# Altium integrated library Analog Devices Data Converters Digital-to-Analog Converters.IntLib: 2231 symbols (part 171 of 181)
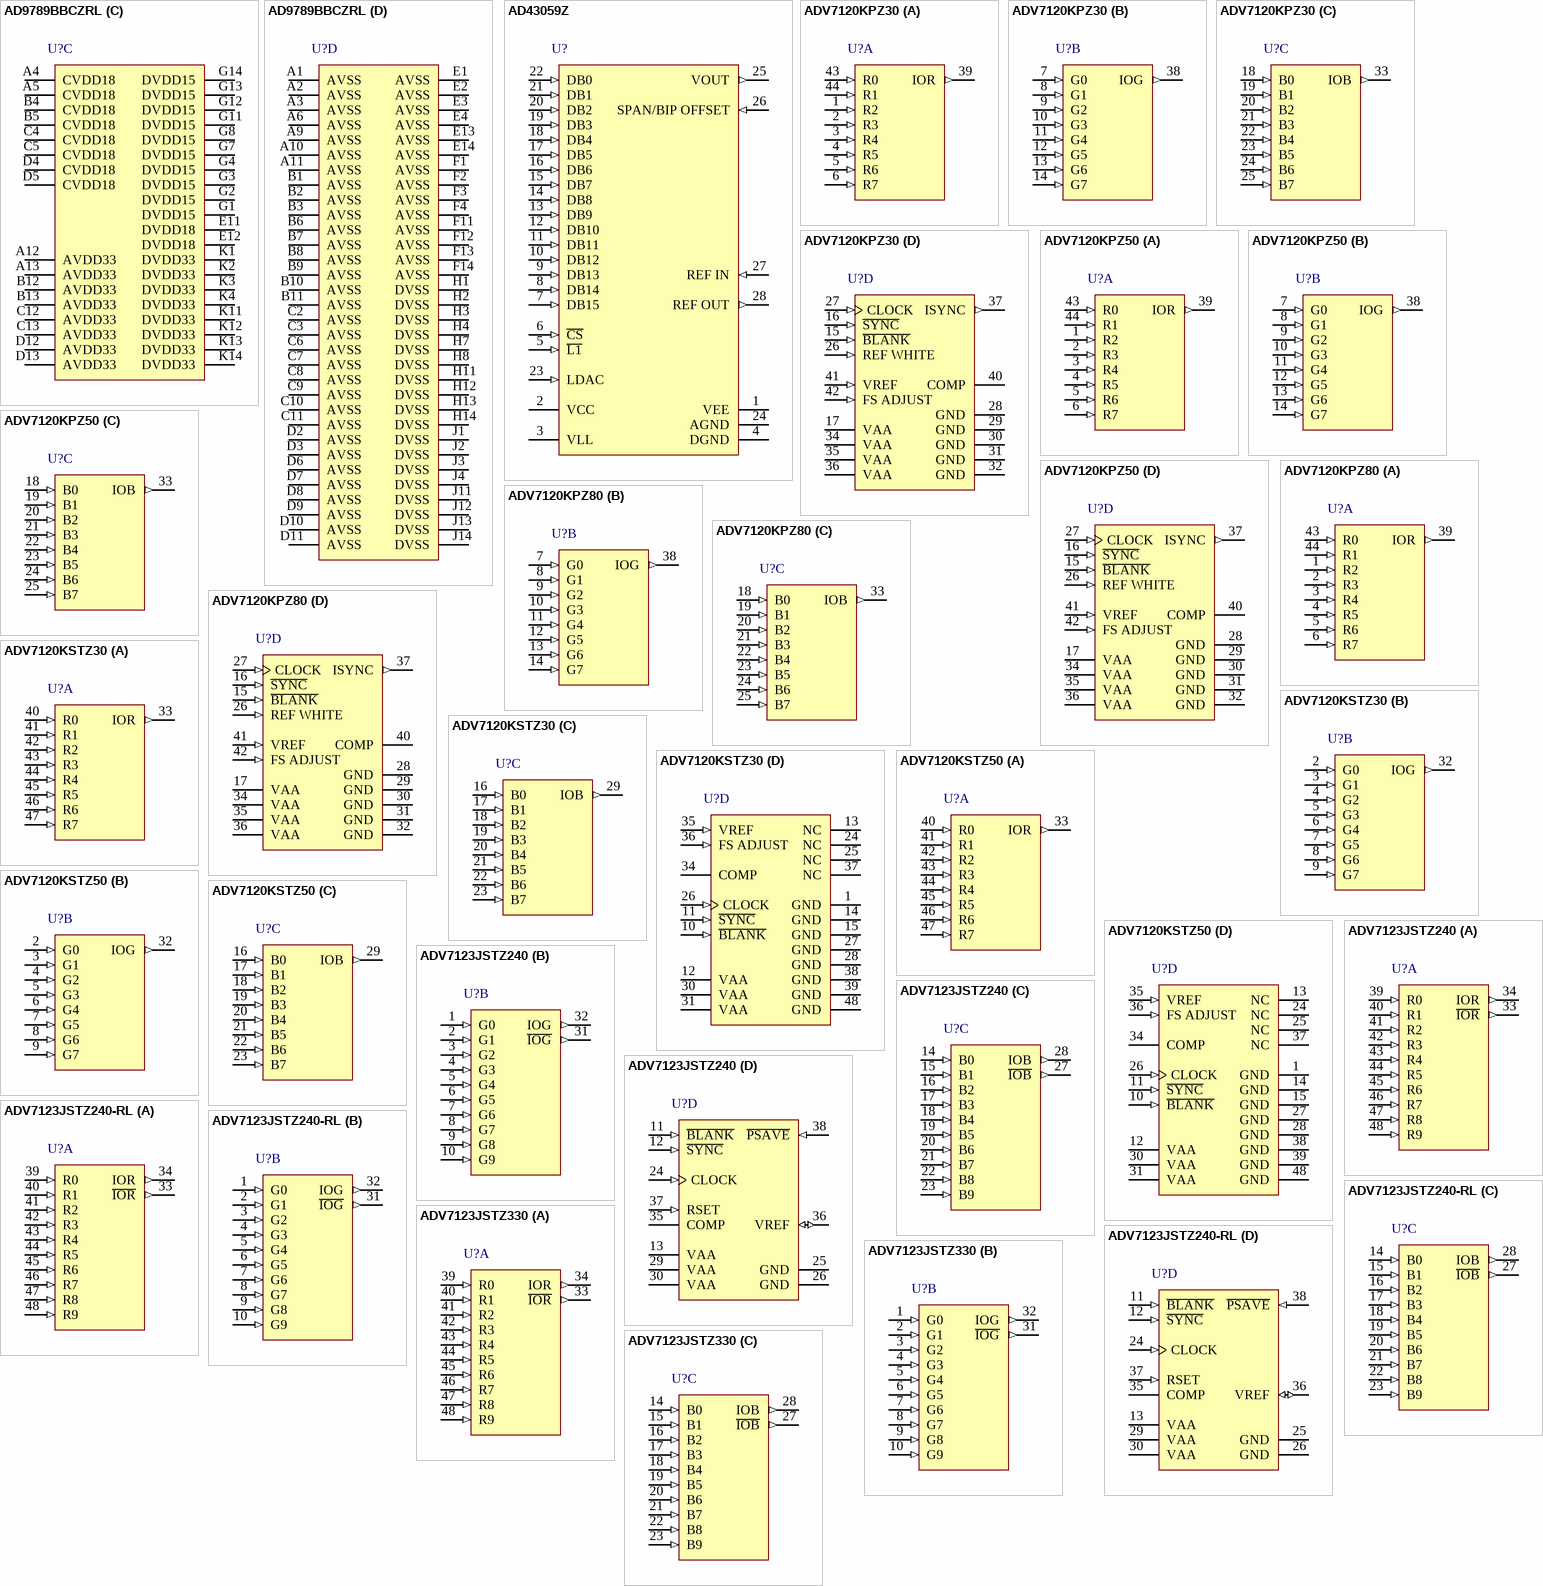
[diagram p284: symbols AD9789BBCZRL to ADV7123JSTZ330]

## ADV7120KSTZ50
designator U?
3 Channel 8-Bit CMOS Video Digital-to-Analog Converter, 0 to +70 degC, ST-48, Pb-Free, Tray; Generic Part Number: ADV7120; Manufacturer: Analog Devices; PartNumber: ADV7120KSTZ50; # DAC Outputs: 3; Max V+: 5.25V; Op Pwr Diss: 625mW; Resolution (Bits): 8; Settling Time: 12ns; Single Supply: Yes; DatasheetVersion: Rev.B; PackageVersion: revA; PackageReference: ST-48; PackageDescription: 48-Pin Thin Quad Flat Pack 0.5 mm Pitch; Supplier 1: Digi-Key; Supplier Part Number 1: ADV7120KSTZ50-ND; Supplier 2: Mouser; Supplier Part Number 2: 584-ADV7120KSTZ50; Packing: Tray; RoHS: Y; Mounting Technology: Surface Mount; ComponentLink1Description: Manufacturer URL; ComponentLink1URL: http://www.analog.com/en/index.html; ComponentLink2Description: Datasheet; ComponentLink2URL: http://www.analog.com/static/imported-files/data_sheets/ADV7120.pdf; ComponentLink3Description: Package Specification; ComponentLink3URL: http://www.analog.com/static/imported-files/packages/PKG_PDF/LQFP%28ST%29/ST_48.pdf; ComponentLink4Description: Product URL; ComponentLink4URL: http://www.analog.com/en/digital-to-analog-converters/da-converters/adv7120/products/product.html
footprint ST-48_N (Thin QFP, 48-Leads, Body 7x7mm, Pitch 0.5mm, IPC Medium Density)
footprint ST-48_L (Thin QFP, 48-Leads, Body 7x7mm, Pitch 0.5mm, IPC High Density)
footprint ST-48_M (Thin QFP, 48-Leads, Body 7x7mm, Pitch 0.5mm, IPC Low Density)
part A pins: 33 IOR (out) "Red current output.This high impedance current sources is capable of directly driving a doubly terminated 75 ohm coaxial cable. This current output should have similar output load whether or not this is being used.", 40 R0 (in) "Red pixel data input (TTL compatible). Pixel data is latched on the rising edge of CLOCK.R0 is the least significant data bits. Unused pixel data inputs should be connected to either the regular PCB power or ground plane.", 41 R1 (in) "Red pixel data input (TTL compatible). Pixel data is latched on the rising edge of CLOCK.Unused pixel data inputs should be connected to either the regular PCB power or ground plane.", 42 R2 (in) "Red pixel data input (TTL compatible). Pixel data is latched on the rising edge of CLOCK.Unused pixel data inputs should be connected to either the regular PCB power or ground plane.", 43 R3 (in) "Red pixel data input (TTL compatible). Pixel data is latched on the rising edge of CLOCK.Unused pixel data inputs should be connected to either the regular PCB power or ground plane.", 44 R4 (in) "Red pixel data input (TTL compatible). Pixel data is latched on the rising edge of CLOCK.Unused pixel data inputs should be connected to either the regular PCB power or ground plane.", 45 R5 (in) "Red pixel data input (TTL compatible). Pixel data is latched on the rising edge of CLOCK.Unused pixel data inputs should be connected to either the regular PCB power or ground plane.", 46 R6 (in) "Red pixel data input (TTL compatible). Pixel data is latched on the rising edge of CLOCK.Unused pixel data inputs should be connected to either the regular PCB power or ground plane.", 47 R7 (in) "Red pixel data input (TTL compatible). Pixel data is latched on the rising edge of CLOCK.Unused pixel data inputs should be connected to either the regular PCB power or ground plane."
part B pins: 2 G0 (in) "Green pixel data input (TTL compatible). Pixel data is latched on the rising edge of CLOCK.G0 is the least significant data bits. Unused pixel data inputs should be connected to either the regular PCB power or ground plane.", 3 G1 (in) "Green pixel data input (TTL compatible). Pixel data is latched on the rising edge of CLOCK.Unused pixel data inputs should be connected to either the regular PCB power or ground plane.", 4 G2 (in) "Green pixel data input (TTL compatible). Pixel data is latched on the rising edge of CLOCK.Unused pixel data inputs should be connected to either the regular PCB power or ground plane.", 5 G3 (in) "Green pixel data input (TTL compatible). Pixel data is latched on the rising edge of CLOCK.Unused pixel data inputs should be connected to either the regular PCB power or ground plane.", 6 G4 (in) "Green pixel data input (TTL compatible). Pixel data is latched on the rising edge of CLOCK.Unused pixel data inputs should be connected to either the regular PCB power or ground plane.", 7 G5 (in) "Green pixel data input (TTL compatible). Pixel data is latched on the rising edge of CLOCK.Unused pixel data inputs should be connected to either the regular PCB power or ground plane.", 8 G6 (in) "Green pixel data input (TTL compatible). Pixel data is latched on the rising edge of CLOCK.Unused pixel data inputs should be connected to either the regular PCB power or ground plane.", 9 G7 (in) "Green pixel data input (TTL compatible). Pixel data is latched on the rising edge of CLOCK.Unused pixel data inputs should be connected to either the regular PCB power or ground plane.", 32 IOG (out) "Green current output.This high impedance current sources is capable of directly driving a doubly terminated 75 ohm coaxial cable. This current output should have similar output load whether or not this is being used."
part C pins: 16 B0 (in) "Blue pixel data input (TTL compatible). Pixel data is latched on the rising edge of CLOCK.B0 is the least significant data bits. Unused pixel data inputs should be connected to either the regular PCB power or ground plane.", 17 B1 (in) "Blue pixel data input (TTL compatible). Pixel data is latched on the rising edge of CLOCK.Unused pixel data inputs should be connected to either the regular PCB power or ground plane.", 18 B2 (in) "Blue pixel data input (TTL compatible). Pixel data is latched on the rising edge of CLOCK.Unused pixel data inputs should be connected to either the regular PCB power or ground plane.", 19 B3 (in) "Blue pixel data input (TTL compatible). Pixel data is latched on the rising edge of CLOCK.Unused pixel data inputs should be connected to either the regular PCB power or ground plane.", 20 B4 (in) "Blue pixel data input (TTL compatible). Pixel data is latched on the rising edge of CLOCK.Unused pixel data inputs should be connected to either the regular PCB power or ground plane.", 21 B5 (in) "Blue pixel data input (TTL compatible). Pixel data is latched on the rising edge of CLOCK.Unused pixel data inputs should be connected to either the regular PCB power or ground plane.", 22 B6 (in) "Blue pixel data input (TTL compatible). Pixel data is latched on the rising edge of CLOCK.Unused pixel data inputs should be connected to either the regular PCB power or ground plane.", 23 B7 (in) "Blue pixel data input (TTL compatible). Pixel data is latched on the rising edge of CLOCK.Unused pixel data inputs should be connected to either the regular PCB power or ground plane.", 29 IOB (out) "Blue current output.This high impedance current sources is capable of directly driving a doubly terminated 75 ohm coaxial cable. This current output should have similar output load whether or not this is being used."
part D pins: 1 GND (power) "Ground. All GND pins must be connected.", 10 ~{BLANK} (in) "Composite blank control input (TTL compatible). A logic zero on this control input drives the analog out-puts, IOR, IOB and IOG, to the blanking level. The B\L\A\N\K\ signal is latched on the rising edge of CLOCK.While (See Datasheet)", 11 ~{SYNC} (in) "Composite sync control input (TTL compatible). A logical zero on the S\Y\N\C\ input switches off a 40 IRE current source on the ISYNC output. S\Y\N\C\ does not override any other control or data input; therefore, it should (See Datasheet)", 12 VAA (power) "Analog power supply (5 V +/- 5%). All VAA pins on the ADV7120 must be connected.", 13 NC "No connection", 14 GND (power) "Ground. All GND pins must be connected.", 15 GND (power) "Ground. All GND pins must be connected.", 24 NC "No connection", 25 NC "No connection", 26 CLOCK (in) "Clock input (TTL compatible). The rising edge of CLOCK latches the R0-R7, G0-G7, B0-B7, S\Y\N\C\,B\L\A\N\K\ and REF WHITE pixel and control inputs. It is typically the pixel clock rate of the video system.CLOCK should be (See Datasheet)", 27 GND (power) "Ground. All GND pins must be connected.", 28 GND (power) "Ground. All GND pins must be connected.", 30 VAA (power) "Analog power supply (5 V +/- 5%). All VAA pins on the ADV7120 must be connected.", 31 VAA (power) "Analog power supply (5 V +/- 5%). All VAA pins on the ADV7120 must be connected.", 34 COMP "Compensation pin. This is a compensation pin for the internal reference amplifier. A 0.1 µF ceramic capacitor must be connected between COMP and VAA.", 35 VREF (in) "Voltage reference input. An external 1.2 V voltage reference must be connected to this pin. The use of an external resistor divider network is not recommended. A 0.1 µF decoupling ceramic capacitor should be connected (See Datasheet)", 36 FS ADJUST (in) "Full-scale adjust control. A resistor (RSET) connected between this pin and GND, controls the magnitude of the full-scale video signal. Note that the IRE relationships are maintained, regardless of the full-scale output (See Datasheet)", 37 NC "No connection", 38 GND (power) "Ground. All GND pins must be connected.", 39 GND (power) "Ground. All GND pins must be connected.", 48 GND (power) "Ground. All GND pins must be connected."

## ADV7123JSTZ240
designator U?
3 Channel 10-Bit CMOS High Speed Video Digital-to-Analog Converter, 330 MHz, 0 to 70 degC, ST-48, Pb-Free, Tray; Generic Part Number: ADV7123; Manufacturer: Analog Devices; PartNumber: ADV7123JSTZ240; # DAC Outputs: 3; Max V+: 5.25V; Op Pwr Diss: 485mW; Resolution (Bits): 10; Settling Time: 15ns; Single Supply: Yes; DatasheetVersion: Rev.D; PackageVersion: revA; PackageReference: ST-48; PackageDescription: 48-Pin Thin Quad Flat Pack 0.5 mm Pitch; Supplier 1: Digi-Key; Supplier Part Number 1: ADV7123JSTZ240-ND; Supplier 2: Farnell; Supplier Part Number 2: 1438732; Supplier 3: Newark; Supplier Part Number 3: 19M8771; Supplier 4: Mouser; Supplier Part Number 4: 584-ADV7123JSTZ240; Packing: Tray; RoHS: Y; Mounting Technology: Surface Mount; ComponentLink1Description: Manufacturer URL; ComponentLink1URL: http://www.analog.com/en/index.html; ComponentLink2Description: Datasheet; ComponentLink2URL: http://www.analog.com/static/imported-files/data_sheets/ADV7123.pdf; ComponentLink3Description: Package Specification; ComponentLink3URL: http://www.analog.com/static/imported-files/packages/PKG_PDF/LQFP%28ST%29/ST_48.pdf; ComponentLink4Description: Product URL; ComponentLink4URL: http://www.analog.com/en/digital-to-analog-converters/da-converters/adv7123/products/product.html
footprint ST-48_N (Thin QFP, 48-Leads, Body 7x7mm, Pitch 0.5mm, IPC Medium Density)
footprint ST-48_L (Thin QFP, 48-Leads, Body 7x7mm, Pitch 0.5mm, IPC High Density)
footprint ST-48_M (Thin QFP, 48-Leads, Body 7x7mm, Pitch 0.5mm, IPC Low Density)
part A pins: 33 ~{IOR} (out) "Differential Red Current Output (High Impedance Current Sources). These RGB video outputs are specified to directly drive RS-343A and RS-170 video levels into a doubly terminated 75 ohm load. If the complementary outputs are (See Datasheet)", 34 IOR (out) "Red Current Output. These high impedance current sources are capable of directly driving a doubly terminated 75 ohm coaxial cable. All three current outputs should have similar output loads whether or not they are all being (See Datasheet)", 39 R0 (in) "Red Pixel Data Input (TTL Compatible). Pixel data is latched on the rising edge of CLOCK. R0 is the least significant data bits. Unused pixel data inputs should be connected to either the regular printed circuit board (PCB) (See Datasheet)", 40 R1 (in) "Red Pixel Data Input (TTL Compatible). Pixel data is latched on the rising edge of CLOCK. Unused pixel data inputs should be connected to either the regular printed circuit board (PCB) power or ground plane.", 41 R2 (in) "Red Pixel Data Input (TTL Compatible). Pixel data is latched on the rising edge of CLOCK. Unused pixel data inputs should be connected to either the regular printed circuit board (PCB) power or ground plane.", 42 R3 (in) "Red Pixel Data Input (TTL Compatible). Pixel data is latched on the rising edge of CLOCK. Unused pixel data inputs should be connected to either the regular printed circuit board (PCB) power or ground plane.", 43 R4 (in) "Red Pixel Data Input (TTL Compatible). Pixel data is latched on the rising edge of CLOCK. Unused pixel data inputs should be connected to either the regular printed circuit board (PCB) power or ground plane.", 44 R5 (in) "Red Pixel Data Input (TTL Compatible). Pixel data is latched on the rising edge of CLOCK. Unused pixel data inputs should be connected to either the regular printed circuit board (PCB) power or ground plane.", 45 R6 (in) "Red Pixel Data Input (TTL Compatible). Pixel data is latched on the rising edge of CLOCK. Unused pixel data inputs should be connected to either the regular printed circuit board (PCB) power or ground plane.", 46 R7 (in) "Red Pixel Data Input (TTL Compatible). Pixel data is latched on the rising edge of CLOCK. Unused pixel data inputs should be connected to either the regular printed circuit board (PCB) power or ground plane.", 47 R8 (in) "Red Pixel Data Input (TTL Compatible). Pixel data is latched on the rising edge of CLOCK. Unused pixel data inputs should be connected to either the regular printed circuit board (PCB) power or ground plane.", 48 R9 (in) "Red Pixel Data Input (TTL Compatible). Pixel data is latched on the rising edge of CLOCK. Unused pixel data inputs should be connected to either the regular printed circuit board (PCB) power or ground plane."
part B pins: 1 G0 (in) "Green Pixel Data Input (TTL Compatible). Pixel data is latched on the rising edge of CLOCK. G0 is the least significant data bits. Unused pixel data inputs should be connected to either the regular printed circuit board (See Datasheet)", 2 G1 (in) "Green Pixel Data Input (TTL Compatible). Pixel data is latched on the rising edge of CLOCK.  Unused pixel data inputs should be connected to either the regular printed circuit board (PCB) power or ground plane.", 3 G2 (in) "Green Pixel Data Input (TTL Compatible). Pixel data is latched on the rising edge of CLOCK.  Unused pixel data inputs should be connected to either the regular printed circuit board (PCB) power or ground plane.", 4 G3 (in) "Green Pixel Data Input (TTL Compatible). Pixel data is latched on the rising edge of CLOCK.  Unused pixel data inputs should be connected to either the regular printed circuit board (PCB) power or ground plane.", 5 G4 (in) "Green Pixel Data Input (TTL Compatible). Pixel data is latched on the rising edge of CLOCK.  Unused pixel data inputs should be connected to either the regular printed circuit board (PCB) power or ground plane.", 6 G5 (in) "Green Pixel Data Input (TTL Compatible). Pixel data is latched on the rising edge of CLOCK.  Unused pixel data inputs should be connected to either the regular printed circuit board (PCB) power or ground plane.", 7 G6 (in) "Green Pixel Data Input (TTL Compatible). Pixel data is latched on the rising edge of CLOCK.  Unused pixel data inputs should be connected to either the regular printed circuit board (PCB) power or ground plane.", 8 G7 (in) "Green Pixel Data Input (TTL Compatible). Pixel data is latched on the rising edge of CLOCK.  Unused pixel data inputs should be connected to either the regular printed circuit board (PCB) power or ground plane.", 9 G8 (in) "Green Pixel Data Input (TTL Compatible). Pixel data is latched on the rising edge of CLOCK.  Unused pixel data inputs should be connected to either the regular printed circuit board (PCB) power or ground plane.", 10 G9 (in) "Green Pixel Data Input (TTL Compatible). Pixel data is latched on the rising edge of CLOCK.  Unused pixel data inputs should be connected to either the regular printed circuit board (PCB) power or ground plane.", 31 ~{IOG} (out) "Differential Green Current Output (High Impedance Current Sources). These RGB video outputs are specified to directly drive RS-343A and RS-170 video levels into a doubly terminated 75 ohm load. If the complementary outputs (See Datasheet)", 32 IOG (out) "Green Current Output. These high impedance current sources are capable of directly driving a doubly terminated 75 ohm coaxial cable. All three current outputs should have similar output loads whether or not they are all (See Datasheet)"
part C pins: 14 B0 (in) "Blue Pixel Data Input (TTL Compatible). Pixel data is latched on the rising edge of CLOCK. B0 is the least significant data bits. Unused pixel data inputs should be connected to either the regular printed circuit board (PCB) (See Datasheet)", 15 B1 (in) "Blue Pixel Data Input (TTL Compatible). Pixel data is latched on the rising edge of CLOCK.  Unused pixel data inputs should be connected to either the regular printed circuit board (PCB) power or ground plane.", 16 B2 (in) "Blue Pixel Data Input (TTL Compatible). Pixel data is latched on the rising edge of CLOCK.  Unused pixel data inputs should be connected to either the regular printed circuit board (PCB) power or ground plane.", 17 B3 (in) "Blue Pixel Data Input (TTL Compatible). Pixel data is latched on the rising edge of CLOCK.  Unused pixel data inputs should be connected to either the regular printed circuit board (PCB) power or ground plane.", 18 B4 (in) "Blue Pixel Data Input (TTL Compatible). Pixel data is latched on the rising edge of CLOCK.  Unused pixel data inputs should be connected to either the regular printed circuit board (PCB) power or ground plane.", 19 B5 (in) "Blue Pixel Data Input (TTL Compatible). Pixel data is latched on the rising edge of CLOCK.  Unused pixel data inputs should be connected to either the regular printed circuit board (PCB) power or ground plane.", 20 B6 (in) "Blue Pixel Data Input (TTL Compatible). Pixel data is latched on the rising edge of CLOCK.  Unused pixel data inputs should be connected to either the regular printed circuit board (PCB) power or ground plane.", 21 B7 (in) "Blue Pixel Data Input (TTL Compatible). Pixel data is latched on the rising edge of CLOCK.  Unused pixel data inputs should be connected to either the regular printed circuit board (PCB) power or ground plane.", 22 B8 (in) "Blue Pixel Data Input (TTL Compatible). Pixel data is latched on the rising edge of CLOCK.  Unused pixel data inputs should be connected to either the regular printed circuit board (PCB) power or ground plane.", 23 B9 (in) "Blue Pixel Data Input (TTL Compatible). Pixel data is latched on the rising edge of CLOCK.  Unused pixel data inputs should be connected to either the regular printed circuit board (PCB) power or ground plane.", 27 ~{IOB} (out) "Differential Blue Current Output (High Impedance Current Sources). These RGB video outputs are specified to directly drive RS-343A and RS-170 video levels into a doubly terminated 75 ohm load. If the complementary outputs (See Datasheet)", 28 IOB (out) "Blue Current Output. These high impedance current sources are capable of directly driving a doubly terminated 75 ohm coaxial cable. All three current outputs should have similar output loads whether or not they are all being (See Datasheet)"
part D pins: 11 ~{BLANK} (in) "Composite Blank Control Input (TTL Compatible). A Logic 0 on this control input drives the analog outputs, IOR, IOB, and IOG, to the blanking level. The B\L\A\N\K\ signal is latched on the rising edge of CLOCK. While (See Datasheet)", 12 ~{SYNC} (in) "Composite Sync Control Input (TTL Compatible). A Logic 0 on the S\Y\N\C\ input switches off a 40 IRE current source. This is internally connected to the IOG analog output. S\Y\N\C\ does not override any other control or data (See Datasheet)", 13 VAA (power) "Analog Power Supply (5 V +/- 5%). All VAA pins on the ADV7123 must be connected.", 24 CLOCK (in) "Clock Input (TTL Compatible). The rising edge of CLOCK latches the R0 to R9, G0 to G9, B0 to B9, S\Y\N\C\, and B\L\A\N\K\ pixel and control inputs. It is typically the pixel clock rate of the video system. CLOCK should be (See Datasheet)", 25 GND (power) "Ground. All GND pins must be connected.", 26 GND (power) "Ground. All GND pins must be connected.", 29 VAA (power) "Analog Power Supply (5 V +/- 5%). All VAA pins on the ADV7123 must be connected.", 30 VAA (power) "Analog Power Supply (5 V +/- 5%). All VAA pins on the ADV7123 must be connected.", 35 COMP "Compensation Pin. This is a compensation pin for the internal reference amplifier. A 0.1 uF ceramic capacitor must be connected between COMP and VAA.", 36 VREF (io) "Voltage Reference Input for DACs or Voltage Reference Output (1.235 V).", 37 RSET (in) "A resistor (RSET) connected between this pin and GND controls the magnitude of the full-scale video signal. Note that the IRE relationships are maintained, regardless of the full-scale output current. For nominal video (See Datasheet)", 38 ~{PSAVE} (in) "Power Save Control Pin. Reduced power consumption is available on the ADV7123 when this pin is active."

## ADV7123JSTZ240-RL
designator U?
3 Channel 10-Bit CMOS High Speed Video Digital-to-Analog Converter, 330 MHz, 0 to 70 degC, ST-48, Pb-Free, Reel; Generic Part Number: ADV7123; Manufacturer: Analog Devices; PartNumber: ADV7123JSTZ240-RL; # DAC Outputs: 3; Max V+: 5.25V; Op Pwr Diss: 485mW; Resolution (Bits): 10; Settling Time: 15ns; Single Supply: Yes; DatasheetVersion: Rev.D; PackageVersion: revA; PackageReference: ST-48; PackageDescription: 48-Pin Thin Quad Flat Pack 0.5 mm Pitch; Supplier 1: Digi-Key; Supplier Part Number 1: ADV7123JSTZ240-RL-ND; Supplier 2: Newark; Supplier Part Number 2: 82H2827; Supplier 3: Mouser; Supplier Part Number 3: 584-ADV7123JSTZ240-R; Packing: Reel; RoHS: Y; Mounting Technology: Surface Mount; ComponentLink1Description: Manufacturer URL; ComponentLink1URL: http://www.analog.com/en/index.html; ComponentLink2Description: Datasheet; ComponentLink2URL: http://www.analog.com/static/imported-files/data_sheets/ADV7123.pdf; ComponentLink3Description: Package Specification; ComponentLink3URL: http://www.analog.com/static/imported-files/packages/PKG_PDF/LQFP%28ST%29/ST_48.pdf; ComponentLink4Description: Product URL; ComponentLink4URL: http://www.analog.com/en/digital-to-analog-converters/da-converters/adv7123/products/product.html
footprint ST-48_N (Thin QFP, 48-Leads, Body 7x7mm, Pitch 0.5mm, IPC Medium Density)
footprint ST-48_L (Thin QFP, 48-Leads, Body 7x7mm, Pitch 0.5mm, IPC High Density)
footprint ST-48_M (Thin QFP, 48-Leads, Body 7x7mm, Pitch 0.5mm, IPC Low Density)
part A pins: 33 ~{IOR} (out) "Differential Red Current Output (High Impedance Current Sources). These RGB video outputs are specified to directly drive RS-343A and RS-170 video levels into a doubly terminated 75 ohm load. If the complementary outputs are (See Datasheet)", 34 IOR (out) "Red Current Output. These high impedance current sources are capable of directly driving a doubly terminated 75 ohm coaxial cable. All three current outputs should have similar output loads whether or not they are all being (See Datasheet)", 39 R0 (in) "Red Pixel Data Input (TTL Compatible). Pixel data is latched on the rising edge of CLOCK. R0 is the least significant data bits. Unused pixel data inputs should be connected to either the regular printed circuit board (PCB) (See Datasheet)", 40 R1 (in) "Red Pixel Data Input (TTL Compatible). Pixel data is latched on the rising edge of CLOCK. Unused pixel data inputs should be connected to either the regular printed circuit board (PCB) power or ground plane.", 41 R2 (in) "Red Pixel Data Input (TTL Compatible). Pixel data is latched on the rising edge of CLOCK. Unused pixel data inputs should be connected to either the regular printed circuit board (PCB) power or ground plane.", 42 R3 (in) "Red Pixel Data Input (TTL Compatible). Pixel data is latched on the rising edge of CLOCK. Unused pixel data inputs should be connected to either the regular printed circuit board (PCB) power or ground plane.", 43 R4 (in) "Red Pixel Data Input (TTL Compatible). Pixel data is latched on the rising edge of CLOCK. Unused pixel data inputs should be connected to either the regular printed circuit board (PCB) power or ground plane.", 44 R5 (in) "Red Pixel Data Input (TTL Compatible). Pixel data is latched on the rising edge of CLOCK. Unused pixel data inputs should be connected to either the regular printed circuit board (PCB) power or ground plane.", 45 R6 (in) "Red Pixel Data Input (TTL Compatible). Pixel data is latched on the rising edge of CLOCK. Unused pixel data inputs should be connected to either the regular printed circuit board (PCB) power or ground plane.", 46 R7 (in) "Red Pixel Data Input (TTL Compatible). Pixel data is latched on the rising edge of CLOCK. Unused pixel data inputs should be connected to either the regular printed circuit board (PCB) power or ground plane.", 47 R8 (in) "Red Pixel Data Input (TTL Compatible). Pixel data is latched on the rising edge of CLOCK. Unused pixel data inputs should be connected to either the regular printed circuit board (PCB) power or ground plane.", 48 R9 (in) "Red Pixel Data Input (TTL Compatible). Pixel data is latched on the rising edge of CLOCK. Unused pixel data inputs should be connected to either the regular printed circuit board (PCB) power or ground plane."
part B pins: 1 G0 (in) "Green Pixel Data Input (TTL Compatible). Pixel data is latched on the rising edge of CLOCK. G0 is the least significant data bits. Unused pixel data inputs should be connected to either the regular printed circuit board (See Datasheet)", 2 G1 (in) "Green Pixel Data Input (TTL Compatible). Pixel data is latched on the rising edge of CLOCK.  Unused pixel data inputs should be connected to either the regular printed circuit board (PCB) power or ground plane.", 3 G2 (in) "Green Pixel Data Input (TTL Compatible). Pixel data is latched on the rising edge of CLOCK.  Unused pixel data inputs should be connected to either the regular printed circuit board (PCB) power or ground plane.", 4 G3 (in) "Green Pixel Data Input (TTL Compatible). Pixel data is latched on the rising edge of CLOCK.  Unused pixel data inputs should be connected to either the regular printed circuit board (PCB) power or ground plane.", 5 G4 (in) "Green Pixel Data Input (TTL Compatible). Pixel data is latched on the rising edge of CLOCK.  Unused pixel data inputs should be connected to either the regular printed circuit board (PCB) power or ground plane.", 6 G5 (in) "Green Pixel Data Input (TTL Compatible). Pixel data is latched on the rising edge of CLOCK.  Unused pixel data inputs should be connected to either the regular printed circuit board (PCB) power or ground plane.", 7 G6 (in) "Green Pixel Data Input (TTL Compatible). Pixel data is latched on the rising edge of CLOCK.  Unused pixel data inputs should be connected to either the regular printed circuit board (PCB) power or ground plane.", 8 G7 (in) "Green Pixel Data Input (TTL Compatible). Pixel data is latched on the rising edge of CLOCK.  Unused pixel data inputs should be connected to either the regular printed circuit board (PCB) power or ground plane.", 9 G8 (in) "Green Pixel Data Input (TTL Compatible). Pixel data is latched on the rising edge of CLOCK.  Unused pixel data inputs should be connected to either the regular printed circuit board (PCB) power or ground plane.", 10 G9 (in) "Green Pixel Data Input (TTL Compatible). Pixel data is latched on the rising edge of CLOCK.  Unused pixel data inputs should be connected to either the regular printed circuit board (PCB) power or ground plane.", 31 ~{IOG} (out) "Differential Green Current Output (High Impedance Current Sources). These RGB video outputs are specified to directly drive RS-343A and RS-170 video levels into a doubly terminated 75 ohm load. If the complementary outputs (See Datasheet)", 32 IOG (out) "Green Current Output. These high impedance current sources are capable of directly driving a doubly terminated 75 ohm coaxial cable. All three current outputs should have similar output loads whether or not they are all (See Datasheet)"
part C pins: 14 B0 (in) "Blue Pixel Data Input (TTL Compatible). Pixel data is latched on the rising edge of CLOCK. B0 is the least significant data bits. Unused pixel data inputs should be connected to either the regular printed circuit board (PCB) (See Datasheet)", 15 B1 (in) "Blue Pixel Data Input (TTL Compatible). Pixel data is latched on the rising edge of CLOCK.  Unused pixel data inputs should be connected to either the regular printed circuit board (PCB) power or ground plane.", 16 B2 (in) "Blue Pixel Data Input (TTL Compatible). Pixel data is latched on the rising edge of CLOCK.  Unused pixel data inputs should be connected to either the regular printed circuit board (PCB) power or ground plane.", 17 B3 (in) "Blue Pixel Data Input (TTL Compatible). Pixel data is latched on the rising edge of CLOCK.  Unused pixel data inputs should be connected to either the regular printed circuit board (PCB) power or ground plane.", 18 B4 (in) "Blue Pixel Data Input (TTL Compatible). Pixel data is latched on the rising edge of CLOCK.  Unused pixel data inputs should be connected to either the regular printed circuit board (PCB) power or ground plane.", 19 B5 (in) "Blue Pixel Data Input (TTL Compatible). Pixel data is latched on the rising edge of CLOCK.  Unused pixel data inputs should be connected to either the regular printed circuit board (PCB) power or ground plane.", 20 B6 (in) "Blue Pixel Data Input (TTL Compatible). Pixel data is latched on the rising edge of CLOCK.  Unused pixel data inputs should be connected to either the regular printed circuit board (PCB) power or ground plane.", 21 B7 (in) "Blue Pixel Data Input (TTL Compatible). Pixel data is latched on the rising edge of CLOCK.  Unused pixel data inputs should be connected to either the regular printed circuit board (PCB) power or ground plane.", 22 B8 (in) "Blue Pixel Data Input (TTL Compatible). Pixel data is latched on the rising edge of CLOCK.  Unused pixel data inputs should be connected to either the regular printed circuit board (PCB) power or ground plane.", 23 B9 (in) "Blue Pixel Data Input (TTL Compatible). Pixel data is latched on the rising edge of CLOCK.  Unused pixel data inputs should be connected to either the regular printed circuit board (PCB) power or ground plane.", 27 ~{IOB} (out) "Differential Blue Current Output (High Impedance Current Sources). These RGB video outputs are specified to directly drive RS-343A and RS-170 video levels into a doubly terminated 75 ohm load. If the complementary outputs (See Datasheet)", 28 IOB (out) "Blue Current Output. These high impedance current sources are capable of directly driving a doubly terminated 75 ohm coaxial cable. All three current outputs should have similar output loads whether or not they are all being (See Datasheet)"
part D pins: 11 ~{BLANK} (in) "Composite Blank Control Input (TTL Compatible). A Logic 0 on this control input drives the analog outputs, IOR, IOB, and IOG, to the blanking level. The B\L\A\N\K\ signal is latched on the rising edge of CLOCK. While (See Datasheet)", 12 ~{SYNC} (in) "Composite Sync Control Input (TTL Compatible). A Logic 0 on the S\Y\N\C\ input switches off a 40 IRE current source. This is internally connected to the IOG analog output. S\Y\N\C\ does not override any other control or data (See Datasheet)", 13 VAA (power) "Analog Power Supply (5 V +/- 5%). All VAA pins on the ADV7123 must be connected.", 24 CLOCK (in) "Clock Input (TTL Compatible). The rising edge of CLOCK latches the R0 to R9, G0 to G9, B0 to B9, S\Y\N\C\, and B\L\A\N\K\ pixel and control inputs. It is typically the pixel clock rate of the video system. CLOCK should be (See Datasheet)", 25 GND (power) "Ground. All GND pins must be connected.", 26 GND (power) "Ground. All GND pins must be connected.", 29 VAA (power) "Analog Power Supply (5 V +/- 5%). All VAA pins on the ADV7123 must be connected.", 30 VAA (power) "Analog Power Supply (5 V +/- 5%). All VAA pins on the ADV7123 must be connected.", 35 COMP "Compensation Pin. This is a compensation pin for the internal reference amplifier. A 0.1 uF ceramic capacitor must be connected between COMP and VAA.", 36 VREF (io) "Voltage Reference Input for DACs or Voltage Reference Output (1.235 V).", 37 RSET (in) "A resistor (RSET) connected between this pin and GND controls the magnitude of the full-scale video signal. Note that the IRE relationships are maintained, regardless of the full-scale output current. For nominal video (See Datasheet)", 38 ~{PSAVE} (in) "Power Save Control Pin. Reduced power consumption is available on the ADV7123 when this pin is active."

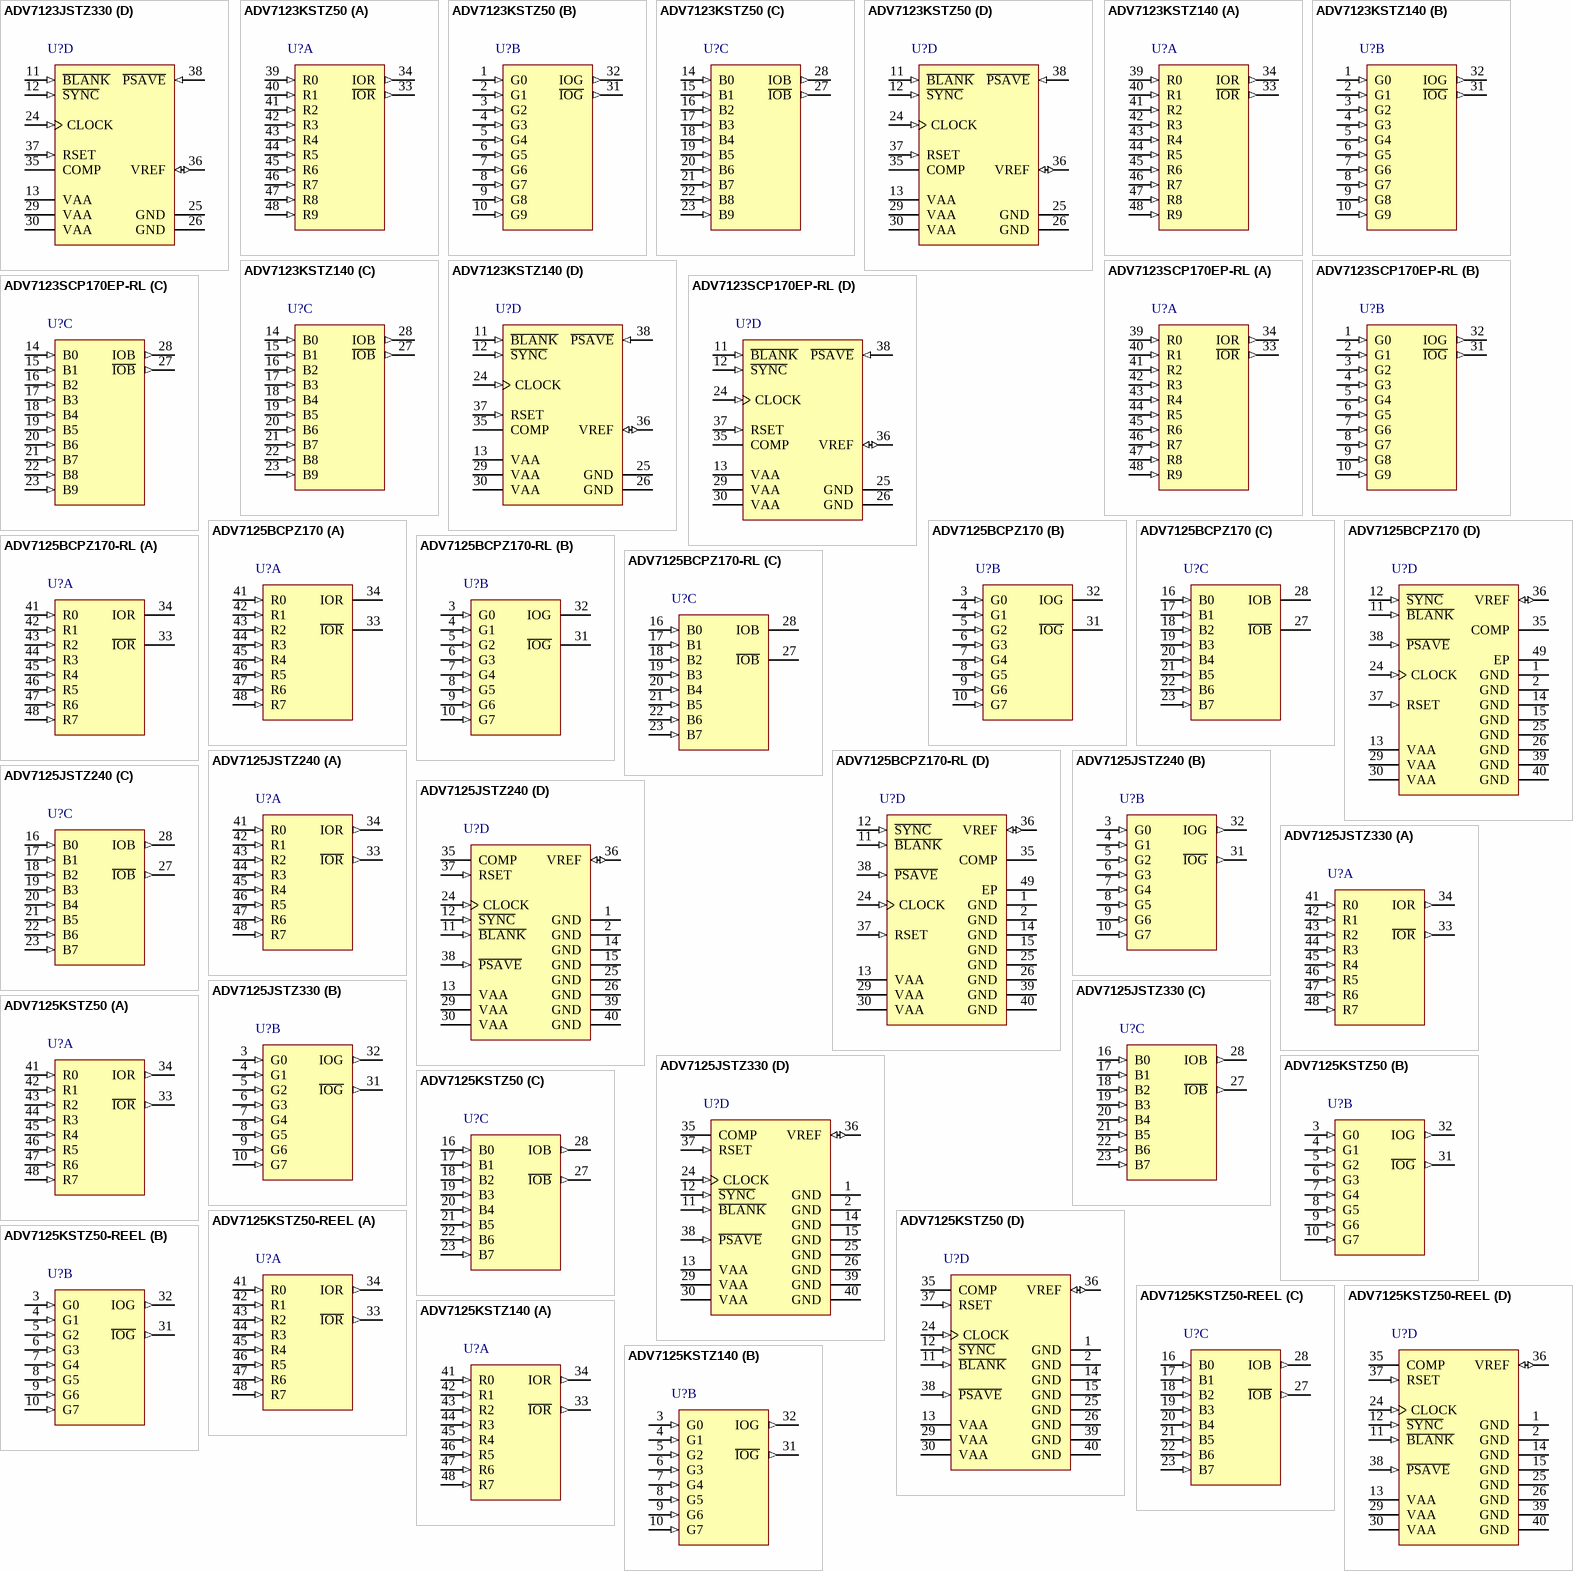
[diagram p108: symbols ADV7123JSTZ330 to ADV7125KSTZ140]

## ADV7123JSTZ330
designator U?
3 Channel 10-Bit CMOS High Speed Video Digital-to-Analog Converter, 330 MHz, 0 to 70 degC, ST-48, Pb-Free, Tray; Generic Part Number: ADV7123; Manufacturer: Analog Devices; PartNumber: ADV7123JSTZ330; # DAC Outputs: 3; Max V+: 5.25V; Op Pwr Diss: 485mW; Resolution (Bits): 10; Settling Time: 15ns; Single Supply: Yes; DatasheetVersion: Rev.D; PackageVersion: revA; PackageReference: ST-48; PackageDescription: 48-Pin Thin Quad Flat Pack 0.5 mm Pitch; Supplier 1: Digi-Key; Supplier Part Number 1: ADV7123JSTZ330-ND; Supplier 2: Newark; Supplier Part Number 2: 59K3316; Supplier 3: Mouser; Supplier Part Number 3: 584-ADV7123JSTZ330; Packing: Tray; RoHS: Y; Mounting Technology: Surface Mount; ComponentLink1Description: Manufacturer URL; ComponentLink1URL: http://www.analog.com/en/index.html; ComponentLink2Description: Datasheet; ComponentLink2URL: http://www.analog.com/static/imported-files/data_sheets/ADV7123.pdf; ComponentLink3Description: Package Specification; ComponentLink3URL: http://www.analog.com/static/imported-files/packages/PKG_PDF/LQFP%28ST%29/ST_48.pdf; ComponentLink4Description: Product URL; ComponentLink4URL: http://www.analog.com/en/digital-to-analog-converters/da-converters/adv7123/products/product.html
footprint ST-48_N (Thin QFP, 48-Leads, Body 7x7mm, Pitch 0.5mm, IPC Medium Density)
footprint ST-48_L (Thin QFP, 48-Leads, Body 7x7mm, Pitch 0.5mm, IPC High Density)
footprint ST-48_M (Thin QFP, 48-Leads, Body 7x7mm, Pitch 0.5mm, IPC Low Density)
part A pins: 33 ~{IOR} (out) "Differential Red Current Output (High Impedance Current Sources). These RGB video outputs are specified to directly drive RS-343A and RS-170 video levels into a doubly terminated 75 ohm load. If the complementary outputs are (See Datasheet)", 34 IOR (out) "Red Current Output. These high impedance current sources are capable of directly driving a doubly terminated 75 ohm coaxial cable. All three current outputs should have similar output loads whether or not they are all being (See Datasheet)", 39 R0 (in) "Red Pixel Data Input (TTL Compatible). Pixel data is latched on the rising edge of CLOCK. R0 is the least significant data bits. Unused pixel data inputs should be connected to either the regular printed circuit board (PCB) (See Datasheet)", 40 R1 (in) "Red Pixel Data Input (TTL Compatible). Pixel data is latched on the rising edge of CLOCK. Unused pixel data inputs should be connected to either the regular printed circuit board (PCB) power or ground plane.", 41 R2 (in) "Red Pixel Data Input (TTL Compatible). Pixel data is latched on the rising edge of CLOCK. Unused pixel data inputs should be connected to either the regular printed circuit board (PCB) power or ground plane.", 42 R3 (in) "Red Pixel Data Input (TTL Compatible). Pixel data is latched on the rising edge of CLOCK. Unused pixel data inputs should be connected to either the regular printed circuit board (PCB) power or ground plane.", 43 R4 (in) "Red Pixel Data Input (TTL Compatible). Pixel data is latched on the rising edge of CLOCK. Unused pixel data inputs should be connected to either the regular printed circuit board (PCB) power or ground plane.", 44 R5 (in) "Red Pixel Data Input (TTL Compatible). Pixel data is latched on the rising edge of CLOCK. Unused pixel data inputs should be connected to either the regular printed circuit board (PCB) power or ground plane.", 45 R6 (in) "Red Pixel Data Input (TTL Compatible). Pixel data is latched on the rising edge of CLOCK. Unused pixel data inputs should be connected to either the regular printed circuit board (PCB) power or ground plane.", 46 R7 (in) "Red Pixel Data Input (TTL Compatible). Pixel data is latched on the rising edge of CLOCK. Unused pixel data inputs should be connected to either the regular printed circuit board (PCB) power or ground plane.", 47 R8 (in) "Red Pixel Data Input (TTL Compatible). Pixel data is latched on the rising edge of CLOCK. Unused pixel data inputs should be connected to either the regular printed circuit board (PCB) power or ground plane.", 48 R9 (in) "Red Pixel Data Input (TTL Compatible). Pixel data is latched on the rising edge of CLOCK. Unused pixel data inputs should be connected to either the regular printed circuit board (PCB) power or ground plane."
part B pins: 1 G0 (in) "Green Pixel Data Input (TTL Compatible). Pixel data is latched on the rising edge of CLOCK. G0 is the least significant data bits. Unused pixel data inputs should be connected to either the regular printed circuit board (See Datasheet)", 2 G1 (in) "Green Pixel Data Input (TTL Compatible). Pixel data is latched on the rising edge of CLOCK.  Unused pixel data inputs should be connected to either the regular printed circuit board (PCB) power or ground plane.", 3 G2 (in) "Green Pixel Data Input (TTL Compatible). Pixel data is latched on the rising edge of CLOCK.  Unused pixel data inputs should be connected to either the regular printed circuit board (PCB) power or ground plane.", 4 G3 (in) "Green Pixel Data Input (TTL Compatible). Pixel data is latched on the rising edge of CLOCK.  Unused pixel data inputs should be connected to either the regular printed circuit board (PCB) power or ground plane.", 5 G4 (in) "Green Pixel Data Input (TTL Compatible). Pixel data is latched on the rising edge of CLOCK.  Unused pixel data inputs should be connected to either the regular printed circuit board (PCB) power or ground plane.", 6 G5 (in) "Green Pixel Data Input (TTL Compatible). Pixel data is latched on the rising edge of CLOCK.  Unused pixel data inputs should be connected to either the regular printed circuit board (PCB) power or ground plane.", 7 G6 (in) "Green Pixel Data Input (TTL Compatible). Pixel data is latched on the rising edge of CLOCK.  Unused pixel data inputs should be connected to either the regular printed circuit board (PCB) power or ground plane.", 8 G7 (in) "Green Pixel Data Input (TTL Compatible). Pixel data is latched on the rising edge of CLOCK.  Unused pixel data inputs should be connected to either the regular printed circuit board (PCB) power or ground plane.", 9 G8 (in) "Green Pixel Data Input (TTL Compatible). Pixel data is latched on the rising edge of CLOCK.  Unused pixel data inputs should be connected to either the regular printed circuit board (PCB) power or ground plane.", 10 G9 (in) "Green Pixel Data Input (TTL Compatible). Pixel data is latched on the rising edge of CLOCK.  Unused pixel data inputs should be connected to either the regular printed circuit board (PCB) power or ground plane.", 31 ~{IOG} (out) "Differential Green Current Output (High Impedance Current Sources). These RGB video outputs are specified to directly drive RS-343A and RS-170 video levels into a doubly terminated 75 ohm load. If the complementary outputs (See Datasheet)", 32 IOG (out) "Green Current Output. These high impedance current sources are capable of directly driving a doubly terminated 75 ohm coaxial cable. All three current outputs should have similar output loads whether or not they are all (See Datasheet)"
part C pins: 14 B0 (in) "Blue Pixel Data Input (TTL Compatible). Pixel data is latched on the rising edge of CLOCK. B0 is the least significant data bits. Unused pixel data inputs should be connected to either the regular printed circuit board (PCB) (See Datasheet)", 15 B1 (in) "Blue Pixel Data Input (TTL Compatible). Pixel data is latched on the rising edge of CLOCK.  Unused pixel data inputs should be connected to either the regular printed circuit board (PCB) power or ground plane.", 16 B2 (in) "Blue Pixel Data Input (TTL Compatible). Pixel data is latched on the rising edge of CLOCK.  Unused pixel data inputs should be connected to either the regular printed circuit board (PCB) power or ground plane.", 17 B3 (in) "Blue Pixel Data Input (TTL Compatible). Pixel data is latched on the rising edge of CLOCK.  Unused pixel data inputs should be connected to either the regular printed circuit board (PCB) power or ground plane.", 18 B4 (in) "Blue Pixel Data Input (TTL Compatible). Pixel data is latched on the rising edge of CLOCK.  Unused pixel data inputs should be connected to either the regular printed circuit board (PCB) power or ground plane.", 19 B5 (in) "Blue Pixel Data Input (TTL Compatible). Pixel data is latched on the rising edge of CLOCK.  Unused pixel data inputs should be connected to either the regular printed circuit board (PCB) power or ground plane.", 20 B6 (in) "Blue Pixel Data Input (TTL Compatible). Pixel data is latched on the rising edge of CLOCK.  Unused pixel data inputs should be connected to either the regular printed circuit board (PCB) power or ground plane.", 21 B7 (in) "Blue Pixel Data Input (TTL Compatible). Pixel data is latched on the rising edge of CLOCK.  Unused pixel data inputs should be connected to either the regular printed circuit board (PCB) power or ground plane.", 22 B8 (in) "Blue Pixel Data Input (TTL Compatible). Pixel data is latched on the rising edge of CLOCK.  Unused pixel data inputs should be connected to either the regular printed circuit board (PCB) power or ground plane.", 23 B9 (in) "Blue Pixel Data Input (TTL Compatible). Pixel data is latched on the rising edge of CLOCK.  Unused pixel data inputs should be connected to either the regular printed circuit board (PCB) power or ground plane.", 27 ~{IOB} (out) "Differential Blue Current Output (High Impedance Current Sources). These RGB video outputs are specified to directly drive RS-343A and RS-170 video levels into a doubly terminated 75 ohm load. If the complementary outputs (See Datasheet)", 28 IOB (out) "Blue Current Output. These high impedance current sources are capable of directly driving a doubly terminated 75 ohm coaxial cable. All three current outputs should have similar output loads whether or not they are all being (See Datasheet)"
part D pins: 11 ~{BLANK} (in) "Composite Blank Control Input (TTL Compatible). A Logic 0 on this control input drives the analog outputs, IOR, IOB, and IOG, to the blanking level. The B\L\A\N\K\ signal is latched on the rising edge of CLOCK. While (See Datasheet)", 12 ~{SYNC} (in) "Composite Sync Control Input (TTL Compatible). A Logic 0 on the S\Y\N\C\ input switches off a 40 IRE current source. This is internally connected to the IOG analog output. S\Y\N\C\ does not override any other control or data (See Datasheet)", 13 VAA (power) "Analog Power Supply (5 V +/- 5%). All VAA pins on the ADV7123 must be connected.", 24 CLOCK (in) "Clock Input (TTL Compatible). The rising edge of CLOCK latches the R0 to R9, G0 to G9, B0 to B9, S\Y\N\C\, and B\L\A\N\K\ pixel and control inputs. It is typically the pixel clock rate of the video system. CLOCK should be (See Datasheet)", 25 GND (power) "Ground. All GND pins must be connected.", 26 GND (power) "Ground. All GND pins must be connected.", 29 VAA (power) "Analog Power Supply (5 V +/- 5%). All VAA pins on the ADV7123 must be connected.", 30 VAA (power) "Analog Power Supply (5 V +/- 5%). All VAA pins on the ADV7123 must be connected.", 35 COMP "Compensation Pin. This is a compensation pin for the internal reference amplifier. A 0.1 uF ceramic capacitor must be connected between COMP and VAA.", 36 VREF (io) "Voltage Reference Input for DACs or Voltage Reference Output (1.235 V).", 37 RSET (in) "A resistor (RSET) connected between this pin and GND controls the magnitude of the full-scale video signal. Note that the IRE relationships are maintained, regardless of the full-scale output current. For nominal video (See Datasheet)", 38 ~{PSAVE} (in) "Power Save Control Pin. Reduced power consumption is available on the ADV7123 when this pin is active."